# Altium schematic symbol library CC0603KRX5R6BB475.SchLib: 1 symbol
Pins are listed as number, name and electrical type; pins without a type are passive.

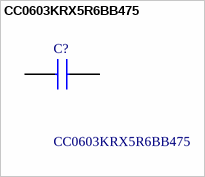
[diagram p0: symbol CC0603KRX5R6BB475]

## CC0603KRX5R6BB475
designator C?
YAGEO (PHYCOMP) - CC0603KRX5R6BB475 - CAP, MLCC, X5R, 4.7UF, 10V, 0603; Manufacturer_Name: Yageo Group; Geometry.Height: 0.9mm; Mouser Part Number: 603-CC603KRX5R6BB475; Mouser Price/Stock: https://www.mouser.co.uk/ProductDetail/Yageo/CC0603KRX5R6BB475/?qs=BKNoF%2F0xMNun51HoEirUUw%3D%3D; Manufacturer_Part_Number: CC0603KRX5R6BB475; Datasheet Link: *
footprint CAPC1608X90N
pins: 1, 2